# EAGLE library part XC9536 (library andereBauteile)
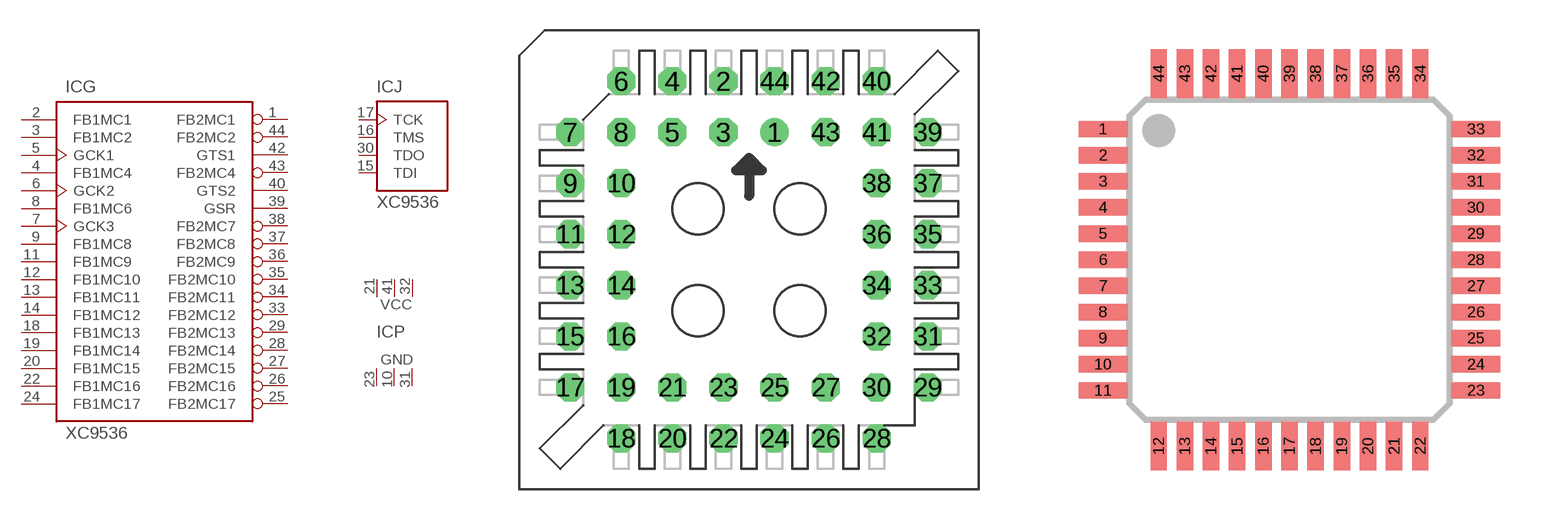
[diagram p32: symbol with the pads of PLCC44; footprints PLCC44, VQ44]

Designator prefix IC; gates G=XC9536 P=PWR6 J=JTAG

## XC9536PC44  [PLCC44]
1  G:FB2MC1
2  G:FB1MC1
3  G:FB1MC2
4  G:FB1MC4
5  G:GCK1
6  G:GCK2
7  G:GCK3
8  G:FB1MC6
9  G:FB1MC8
10  P:GND  pwr
11  G:FB1MC9
12  G:FB1MC10
13  G:FB1MC11
14  G:FB1MC12
15  J:TDI  in
16  J:TMS  in
17  J:TCK  in
18  G:FB1MC13
19  G:FB1MC14
20  G:FB1MC15
21  P:VCC  pwr
22  G:FB1MC16
23  P:GND  pwr
24  G:FB1MC17
25  G:FB2MC17
26  G:FB2MC16
27  G:FB2MC15
28  G:FB2MC14
29  G:FB2MC13
30  J:TDO  out
31  P:GND  pwr
32  P:VCC  pwr
33  G:FB2MC12
34  G:FB2MC11
35  G:FB2MC10
36  G:FB2MC9
37  G:FB2MC8
38  G:FB2MC7
39  G:GSR
40  G:GTS2
41  P:VCC  pwr
42  G:GTS1
43  G:FB2MC4
44  G:FB2MC2

## XC9536VQ44  [VQ44]
1  G:GCK3
2  G:FB1MC6
3  G:FB1MC8
4  P:GND  pwr
5  G:FB1MC9
6  G:FB1MC10
7  G:FB1MC11
8  G:FB1MC12
9  J:TDI  in
10  J:TMS  in
11  J:TCK  in
12  G:FB1MC13
13  G:FB1MC14
14  G:FB1MC15
15  P:VCC  pwr
16  G:FB1MC16
17  P:GND  pwr
18  G:FB1MC17
19  G:FB2MC17
20  G:FB2MC16
21  G:FB2MC15
22  G:FB2MC14
23  G:FB2MC13
24  J:TDO  out
25  P:GND  pwr
26  P:VCC  pwr
27  G:FB2MC12
28  G:FB2MC11
29  G:FB2MC10
30  G:FB2MC9
31  G:FB2MC8
32  G:FB2MC7
33  G:GSR
34  G:GTS2
35  P:VCC  pwr
36  G:GTS1
37  G:FB2MC4
38  G:FB2MC2
39  G:FB2MC1
40  G:FB1MC1
41  G:FB1MC2
42  G:FB1MC4
43  G:GCK1
44  G:GCK2

## Footprint PLCC44 (pad centres in mm)
drill 0.813 pad 1.397 round: 1 1.27,6.35
drill 0.813 pad 1.397 octagon: 2 -1.27,8.89; 3 -1.27,6.35; 4 -3.81,8.89; 5 -3.81,6.35; 6 -6.35,8.89; 7 -8.89,6.35; 8 -6.35,6.35; 9 -8.89,3.81; 10 -6.35,3.81; 11 -8.89,1.27; 12 -6.35,1.27; 13 -8.89,-1.27; 14 -6.35,-1.27; 15 -8.89,-3.81; 16 -6.35,-3.81; 17 -8.89,-6.35; 18 -6.35,-8.89; 19 -6.35,-6.35; 20 -3.81,-8.89; 21 -3.81,-6.35; 22 -1.27,-8.89; 23 -1.27,-6.35; 24 1.27,-8.89; 25 1.27,-6.35; 26 3.81,-8.89; 27 3.81,-6.35; 28 6.35,-8.89; 29 8.89,-6.35; 30 6.35,-6.35; 31 8.89,-3.81; 32 6.35,-3.81; 33 8.89,-1.27; 34 6.35,-1.27; 35 8.89,1.27; 36 6.35,1.27; 37 8.89,3.81; 38 6.35,3.81; 39 8.89,6.35; 40 6.35,8.89; 41 6.35,6.35; 42 3.81,8.89; 43 3.81,6.35; 44 1.27,8.89

## Footprint VQ44 (pad centres in mm)
smd 1.5 x 0.5: 1 -5.7,4; 2 -5.7,3.2; 3 -5.7,2.4; 4 -5.7,1.6; 5 -5.7,0.8; 6 -5.7,0; 7 -5.7,-0.8; 8 -5.7,-1.6; 9 -5.7,-2.4; 10 -5.7,-3.2; 11 -5.7,-4; 23 5.7,-4; 24 5.7,-3.2; 25 5.7,-2.4; 26 5.7,-1.6; 27 5.7,-0.8; 28 5.7,0; 29 5.7,0.8; 30 5.7,1.6; 31 5.7,2.4; 32 5.7,3.2; 33 5.7,4
smd 0.5 x 1.5: 12 -4,-5.7; 13 -3.2,-5.7; 14 -2.4,-5.7; 15 -1.6,-5.7; 16 -0.8,-5.7; 17 0,-5.7; 18 0.8,-5.7; 19 1.6,-5.7; 20 2.4,-5.7; 21 3.2,-5.7; 22 4,-5.7; 34 4,5.7; 35 3.2,5.7; 36 2.4,5.7; 37 1.6,5.7; 38 0.8,5.7; 39 0,5.7; 40 -0.8,5.7; 41 -1.6,5.7; 42 -2.4,5.7; 43 -3.2,5.7; 44 -4,5.7